# EAGLE library part SN74LVC2G34DBVR (library SN74LVC2G34DBVR)
Texas Instruments SN74LVC2G34DBVR, Dual, Buffer, Non-Inverting, 1.65 5.5 V, 6-Pin SOT-23 Source: Datasheet <https://www.ti.com/lit/gpn/SN74LVC2G34>
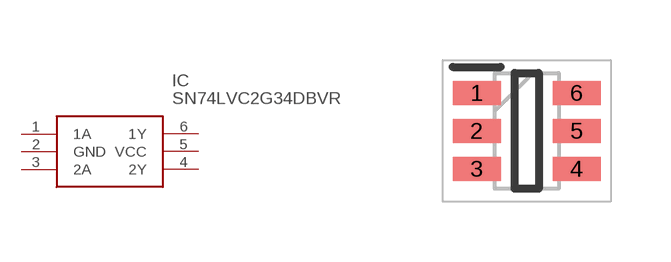
[diagram p0: symbol with the pads of SOT95P280X145-6N; footprint SOT95P280X145-6N]

Designator prefix IC

## SN74LVC2G34DBVR (Arrow_Part_Number: SN74LVC2G34DBVR; Arrow_Price-Stock: https://www.arrow.com/en/products/sn74lvc2g34dbvr/texas-instruments?utm_currency=USD&region=nac; Description: Texas Instruments SN74LVC2G34DBVR, Dual, Buffer, Non-Inverting, 1.65 5.5 V, 6-Pin SOT-23; Height: 1.45mm; Manufacturer_Name: Texas Instruments; Manufacturer_Part_Number: SN74LVC2G34DBVR; Mouser_Part_Number: 595-SN74LVC2G34DBVR; Mouser_Price-Stock: https://www.mouser.co.uk/ProductDetail/Texas-Instruments/SN74LVC2G34DBVR?qs=gqbMQSs93zOw%2FyHBVKqhZQ%3D%3D)  [SOT95P280X145-6N]
1  1A
2  GND
3  2A
4  2Y
5  VCC
6  1Y

## Footprint SOT95P280X145-6N (pad centres in mm)
DBV0006A-
smd 1.2 x 0.6: 1 -1.25,0.95; 2 -1.25,0; 3 -1.25,-0.95; 4 1.25,-0.95; 5 1.25,0; 6 1.25,0.95